# EAGLE library part LTC3534 (library LTC3534)
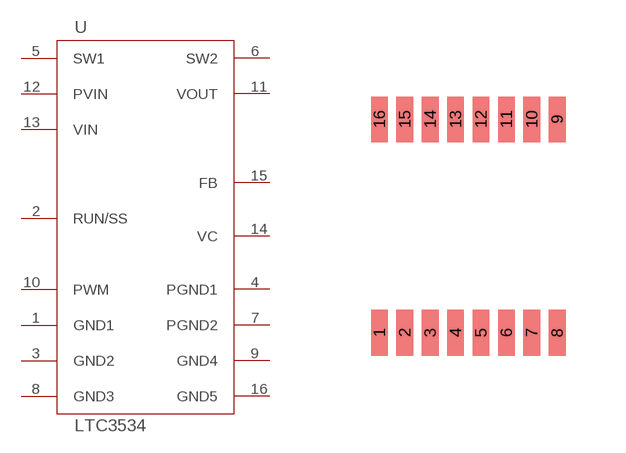
[diagram p0: symbol with the pads of SSOP-16GN; footprint SSOP-16GN]

Designator prefix -

## LTC3534  [SSOP-16GN]
1  GND1
2  RUN/SS
3  GND2
4  PGND1
5  SW1
6  SW2
7  PGND2
8  GND3
9  GND4
10  PWM
11  VOUT
12  PVIN
13  VIN
14  VC
15  FB
16  GND5

## Footprint SSOP-16GN (pad centres in mm)
smd 0.419 x 1.143: 1 -2.223,-2.667; 2 -1.587,-2.667; 3 -0.953,-2.667; 4 -0.318,-2.667; 5 0.318,-2.667; 6 0.953,-2.667; 7 1.587,-2.667; 8 2.223,-2.667; 9 2.223,2.667; 10 1.587,2.667; 11 0.953,2.667; 12 0.318,2.667; 13 -0.318,2.667; 14 -0.953,2.667; 15 -1.587,2.667; 16 -2.223,2.667